# Altium footprint library PAL.PcbLib: 271 footprints (part 10 of 17)
Each footprint in its own frame and in the unit in brackets; x right, y up, seen from the top. Pads: shape width x height; smd on the part's side, far side on the other; paste and mask are expansions set on the pad; w line width, h text height; cw(c..) or ccw(c..) is an arc to the next point about the centre after c.
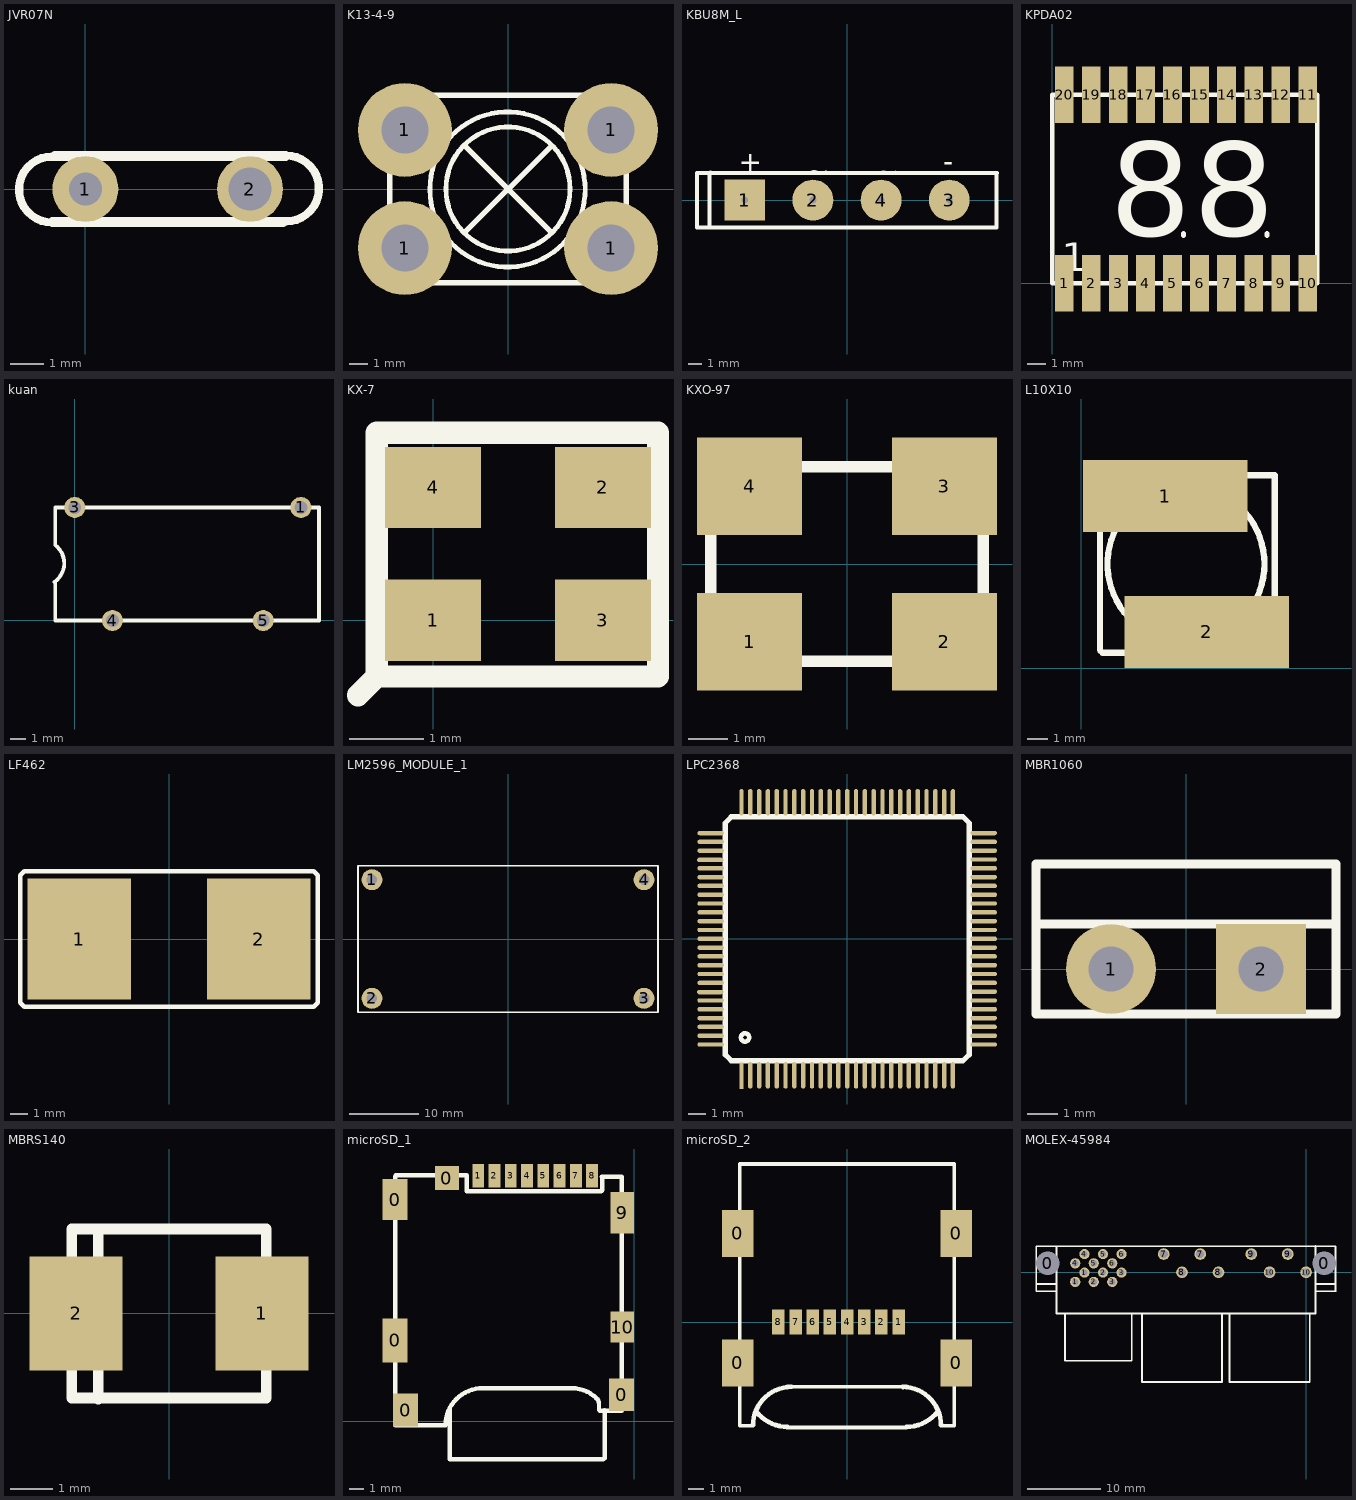
[diagram p9: the footprints below, top view; thin cyan lines are the x and y axes]

## JVR07N [mm]
pads (2):
  round 2 on Top hole 1: 1(0,0)
  round 2 on Top hole 1.3: 2(5,0)
Top Overlay:
  lines w0.254: -1.016,-1.016 cw(c-1.016,-0.016) -1.016,0.985 ; 6.096,-0.985 ccw(c6.096,0.016) 6.096,1.016
  lines w0.3: -1,-1 6,-1 ; -0.92,1 6.08,1

## K13-4-9 [mm]
pads (4):
  round 5 on Top hole 2.5: 1(-5.5,-3.15) 1(-5.5,3.15) 1(5.5,-3.15) 1(5.5,3.15)
Top Overlay:
  circle w0.254: c0,0 r3.311
  circle w0.254: c-0.025,-0.025 r4.14
  lines w0.3: -2.325,-2.325 2.325,2.3 ; -2.325,2.325 2.325,-2.325 ; -6.3,-5 -6.3,0 -6.3,5 0,5 6.3,5 6.3,0 6.3,-5 0,-5 -6.3,-5

## KBU8M_L [mm]
pads (4):
  rect 3x3 on Top hole 0.5: 1(-7.5,0)
  round 3 on Top hole 0.5: 2(-2.5,0) 3(7.5,0) 4(2.5,0)
Top Overlay:
  lines w0.2: -11,-2 11,-2 ; -11,2 11,2
  lines w0.3: -10.075,-2 -10.075,1.95 -10,2.025 ; -11,-2 -11,2 11,2 10.975,1.975 10.975,-2 -11,-2
  text "~" at -2.975,1.375 h1.5
  text "~" at 2.125,1.35 h1.5
  text "-" at 7.075,2.125 h1.5
  text "+" at -7.95,2.075 h1.5

## KPDA02 [mm]
pads (20):
  rect 1x3 smd: 1(0.634,-0.008) 2(2.074,-0.008) 3(3.519,-0.008) 4(4.954,-0.008) 5(6.394,-0.008) 6(7.834,-0.008) 7(9.274,-0.008) 8(10.714,-0.008) 9(12.154,-0.008) 10(13.594,-0.008) 11(13.594,10.025) 12(12.154,10.025) 13(10.714,10.025) 14(9.274,10.025) 15(7.834,10.025) 16(6.394,10.025) 17(4.954,10.025) 18(3.514,10.025) 19(2.074,10.025) 20(0.634,10.025)
Top Overlay:
  lines w0.254: 6.984,2.532 6.984,2.659 ; 11.429,2.532 11.429,2.659 ; -0.001,-0.008 14.096,-0.008 14.096,10.025 -0.001,10.025 -0.001,-0.008
  text "1" at 0.507,0.627 h1.52
  text "8" at 7.492,2.532 h5
  text "8" at 3.047,2.532 h5

## kuan [mm]
pads (4):
  round 1.4 on Top hole 0.85: 1(15.006,7.49) 3(0.006,7.49) 4(2.506,-0.01) 5(12.506,-0.01)
Top Overlay:
  lines w0.254: -1.341,2.556 ccw(c-2.194,3.79) -1.294,4.99 -1.294,7.49 0.006,7.49 15.006,7.49 16.206,7.49 16.206,-0.01 15.006,-0.01 0.006,-0.01 -1.294,-0.01 -1.294,2.49

## KX-7 [mm]
pads (4):
  rect 1.3x1.1 smd: 1(0,0) 2(2.3,1.8) 3(2.3,0) 4(0,1.8)
Top Overlay:
  lines w0.3: -1.016,-1.016 -0.762,-0.762 ; -0.762,-0.762 -0.762,2.54 3.048,2.54 3.048,-0.762 -0.762,-0.762

## KXO-97 [mm]
pads (4):
  rect 2.7x2.5 smd: 1(-2.5,-2) 2(2.5,-2) 3(2.5,2) 4(-2.5,2)
Top Overlay:
  lines w0.3: -3.5,-2.5 0,-2.5 3.5,-2.5 3.5,0 3.5,2.5 0,2.5 -3.5,2.5 -3.5,0 -3.5,-2.5

## L10X10 [mm]
pads (2):
  rect 8x3.5 smd: 1(4.075,8.372) 2(6.107,1.768)
Top Overlay:
  circle w0.3: c5.091,5.07 r3.821
  lines w0.3: 0.9,0.879 1.027,0.752 9.028,0.752 9.155,0.752 9.409,0.752 9.409,7.864 9.409,9.261 9.409,9.388 0.9,9.388 0.9,0.879

## LF462 [mm] "LF462"
pads (2):
  rect 6x7 smd: 1(-5.2,0) 2(5.2,0)
Top Overlay:
  lines w0.254: -8.625,-3.7 -8.625,0 -8.625,3.7 -8.4,3.925 0,3.925 8.4,3.925 8.625,3.7 8.625,0 8.625,-3.7 8.4,-3.925 0,-3.925 -8.4,-3.925 -8.625,-3.7

## LM2596_MODULE_1 [mm]
pads (4):
  round 3 on Top hole 1.5: 1(-19.5,8.5) 2(-19.5,-8.5) 3(19.5,-8.5) 4(19.5,8.5)
Top Overlay:
  lines w0.254: -21.5,-10.5 -21.5,10.5 21.5,10.5 21.5,-10.5 -21.5,-10.5

## LPC2368 [mm]
pads (100):
  rect 0.25x1.5 smd: 1(-6,-7.775)
  oval 0.25x1.5 smd: 2(-5.5,-7.75) 3(-5,-7.75) 4(-4.5,-7.75) 5(-4,-7.75) 6(-3.5,-7.75) 7(-3,-7.75) 8(-2.5,-7.75) 9(-2,-7.75) 10(-1.5,-7.75) 11(-1,-7.75) 12(-0.5,-7.75) 13(0,-7.75) 14(0.5,-7.75) 15(1,-7.75) 16(1.5,-7.75) 17(2,-7.75) 18(2.5,-7.75) 19(3,-7.75) 20(3.5,-7.75) 21(4,-7.75) 22(4.5,-7.75) 23(5,-7.75) 24(5.5,-7.75) 25(6,-7.75) 51(6,7.75) 52(5.5,7.75) 53(5,7.75) 54(4.5,7.75) 55(4,7.75) 56(3.5,7.75) 57(3,7.75) 58(2.5,7.75) 59(2,7.75) 60(1.5,7.75) 61(1,7.75) 62(0.5,7.75) 63(0,7.75) 64(-0.5,7.75) 65(-1,7.75) 66(-1.5,7.75) 67(-2,7.75) 68(-2.5,7.75) 69(-3,7.75) 70(-3.5,7.75) 71(-4,7.75) 72(-4.5,7.75) 73(-5,7.75) 74(-5.5,7.75) 75(-6,7.75)
  oval 1.5x0.25 smd: 26(7.75,-6) 27(7.75,-5.5) 28(7.75,-5) 29(7.75,-4.5) 30(7.75,-4) 31(7.75,-3.5) 32(7.75,-3) 33(7.75,-2.5) 34(7.75,-2) 35(7.75,-1.5) 36(7.75,-1) 37(7.75,-0.5) 38(7.75,0) 39(7.75,0.5) 40(7.75,1) 41(7.75,1.5) 42(7.75,2) 43(7.75,2.5) 44(7.75,3) 45(7.75,3.5) 46(7.75,4) 47(7.75,4.5) 48(7.75,5) 49(7.75,5.5) 50(7.75,6) 76(-7.75,6) 77(-7.75,5.5) 78(-7.75,5) 79(-7.775,4.475) 80(-7.75,4) 81(-7.75,3.5) 82(-7.75,3) 83(-7.75,2.5) 84(-7.75,2) 85(-7.75,1.5) 86(-7.75,1) 87(-7.75,0.5) 88(-7.75,0) 89(-7.75,-0.5) 90(-7.75,-1) 91(-7.75,-1.5) 92(-7.75,-2) 93(-7.75,-2.5) 94(-7.775,-3.025) 95(-7.75,-3.5) 96(-7.75,-4) 97(-7.75,-4.5) 98(-7.75,-5) 99(-7.75,-5.5) 100(-7.75,-6)
Top Overlay:
  circle w0.254: c-5.8,-5.6 r0.236
  lines w0.3: -6.925,-6.475 -6.925,0 -6.925,6.55 ; -6.925,-6.425 -6.925,-6.575 -6.575,-6.925 -6.55,-6.925 0,-6.925 6.475,-6.925 ; -6.925,6.575 -6.575,6.925 ; -6.475,6.925 0,6.925 6.55,6.925 ; 6.575,-6.925 6.925,-6.575 ; 6.575,6.925 6.925,6.575 ; 6.925,-6.55 6.925,0 6.925,6.475

## MBR1060 [mm]
pads (2):
  round 3 on Top hole 1.5: 1(-2.5,0)
  rect 3x3 on Top hole 1.5: 2(2.5,0)
Top Overlay:
  lines w0.3: -5,1.5 5,1.5 ; -5,-1.5 -5,3.5 5,3.5 5,-1.5 -5,-1.5

## MBRS140 [mm]
pads (2):
  rect 2.2x2.7 smd: 1(2.2,0) 2(-2.2,0)
Top Overlay:
  lines w0.254: -1.675,-2.025 -1.675,2 ; -2.3,-2 -2.3,0 -2.3,2 0,2 2.3,2 2.3,0 2.3,-2 0,-2 -2.3,-2

## microSD_1 [mm]
pads (15):
  rect 1.7x3 smd: 0(-16.141,5.47)
  rect 1.7x2.8 smd: 0(-16.141,14.995)
  rect 1.7x2.2 smd: 0(-15.44,0.77) 0(-0.84,1.795)
  rect 1.6x1.6 smd: 0(-12.641,16.445)
  rect 0.8x1.6 smd: 1(-10.531,16.595) 2(-9.43,16.595) 3(-8.33,16.595) 4(-7.231,16.595) 5(-6.13,16.595) 6(-5.031,16.595) 7(-3.931,16.595) 8(-2.83,16.595)
  rect 1.6x2.8 smd: 9(-0.79,14.095)
  rect 1.6x2.1 smd: 10(-0.79,6.37)
Top Overlay:
  lines w0.3: -12.465,0.845 -12.465,-2.555 -2.066,-2.555 -1.991,-2.48 -1.991,0.745 -2.016,0.77 ; -16.14,-0.255 -12.741,-0.255 cw(c-10.266,-0.255) -12.016,1.495 cw(c-10.205,-0.316) -10.205,2.245 -4.205,2.245 cw(c-4.205,-0.145) -2.515,1.545 cw(c-2.878,1.183) -2.365,1.183 -2.365,0.77 -2.315,0.72 -0.816,0.72 -0.816,16.495 -0.841,16.52 -2.165,16.52 -2.141,16.495 -2.141,15.62 -2.216,15.545 -11.315,15.545 -11.291,15.57 -11.291,16.62 -16.091,16.62 -16.141,16.57 -16.14,-0.255

## microSD_2 [mm]
pads (12):
  rect 2x3 smd: 0(-7,-2.6) 0(-7,5.7) 0(7,-2.6) 0(7,5.7)
  rect 0.8x1.6 smd: 1(3.306,0.03) 2(2.206,0.03) 3(1.105,0.03) 4(0.005,0.03) 5(-1.095,0.03) 6(-2.194,0.03) 7(-3.294,0.03) 8(-4.394,0.03)
Top Overlay:
  lines w0.25: -6.025,-6.625 -6.875,-6.625 -6.875,10.15 6.875,10.15 6.875,-6.625 6.025,-6.625 ; -3.85,-6.725 3.775,-6.725 3.8,-6.75 ; -3.575,-4.125 3.55,-4.125 3.6,-4.175
  lines w0.3: -6.025,-6.6 cw(c-3.55,-6.6) -3.55,-4.125 ; -5.843,-5.669 ccw(c-3.789,-4.139) -3.799,-6.7 ; 3.55,-4.125 cw(c3.55,-6.6) 6.025,-6.6 ; 3.799,-6.7 ccw(c3.789,-4.139) 5.843,-5.669

## MOLEX-45984 [mm]
pads (22):
  round 3 on Top hole 3.2: 0(-35.4,1.25) 0(2.5,1.25)
  round 1.4 on Top hole 0.85: 1(-31.63,-1.31) 1(-30.36,-0.04) 2(-29.09,-1.31) 2(-27.82,-0.04) 3(-26.55,-1.31) 3(-25.28,-0.04) 4(-31.625,1.23) 4(-30.36,2.5) 5(-29.09,1.23) 5(-27.82,2.5) 6(-26.55,1.23) 6(-25.28,2.5)
  round 1.6 on Top hole 1.1: 7(-19.5,2.5) 7(-14.5,2.5) 8(-17,0) 8(-12,0) 9(-7.5,2.5) 9(-2.5,2.5) 10(-5,0) 10(0,0)
Top Overlay:
  lines w0.25: -36.925,-1.6 -34.225,-1.6 ; -34.25,-2.6 -36.975,-2.6 -36.975,3.575 -34.175,3.575 ; -34.2,3.575 -34.2,-5.625 1.3,-5.625 1.3,3.6 ; -34.2,3.58 1.3,3.58 ; -33.055,-12.12 -23.9,-12.1 ; -33.025,-12.1 -33.025,-5.625 ; -23.875,-12.1 -23.875,-5.625 ; -22.5,-5.625 -22.5,-15.02 -11.5,-15.02 -11.5,-5.625 ; -10.5,-5.625 -10.5,-15.02 0.5,-15.02 0.5,-5.625 ; 1.25,3.575 4.05,3.575 4.05,-2.6 ; 1.3,-1.6 4,-1.6 4.025,-1.575 ; 1.325,-2.6 4.05,-2.6 ; 4.05,-2.6 4.05,-2.6